# Altium schematic symbol library SCH - DRIVER - LED - TI TL4242-Q1_KTT_7.SchLib: 1 symbol
Pins are listed as number, name and electrical type; pins without a type are passive.

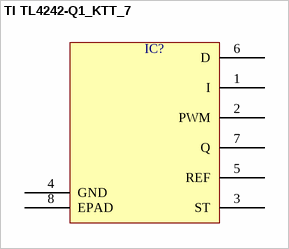
[diagram p0: symbol TI TL4242-Q1_KTT_7]

## TI TL4242-Q1_KTT_7
designator IC?  (value not drawn)
pins: 1 I, 2 PWM, 3 ST, 4 GND, 5 REF, 6 D, 7 Q, 8 EPAD